# EAGLE library part TXE-433-KH (library LINX)
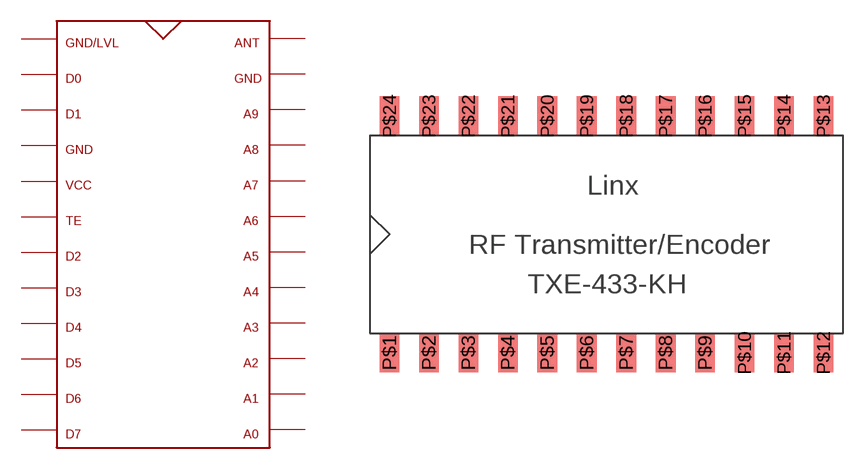
[diagram p5: symbol with the pads of TXE-433-KH; footprint TXE-433-KH]

Designator prefix -

## TXE-433-KH  [TXE-433-KH]
P$1  P$1
P$2  P$2
P$3  P$3
P$4  P$4
P$5  P$5
P$6  P$6
P$7  P$7
P$8  P$8
P$9  P$9
P$10  P$10
P$11  P$11
P$12  P$12
P$13  P$13
P$14  P$14
P$15  P$15
P$16  P$16
P$17  P$17
P$18  P$18
P$19  P$19
P$20  P$20
P$21  P$21
P$22  P$22
P$23  P$23
P$24  P$24

## Footprint TXE-433-KH (pad centres in mm)
smd 1.27 x 2.54: P$1 0,0; P$2 2.54,0; P$3 5.08,0; P$4 7.62,0; P$5 10.16,0; P$6 12.7,0; P$7 15.24,0; P$8 17.78,0; P$9 20.32,0; P$10 22.86,0; P$11 25.4,0; P$12 27.94,0; P$13 27.94,15.24; P$14 25.4,15.24; P$15 22.86,15.24; P$16 20.32,15.24; P$17 17.78,15.24; P$18 15.24,15.24; P$19 12.7,15.24; P$20 10.16,15.24; P$21 7.62,15.24; P$22 5.08,15.24; P$23 2.54,15.24; P$24 0,15.24